# Altium schematic symbol library SolderBridge.SchLib: 1 symbol
Pins are listed as number, name and electrical type; pins without a type are passive.

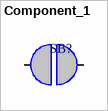
[diagram p0: symbol Component_1]

## Component_1
designator SB?, comment SolderBridge  (value not drawn)
footprint PCBComponent_1
pins: 0, 1